# EAGLE library part TINY414 (library JLB6_Processor)
MICROCONTROLLER ATtiny414 2 or 4 Kbytes ROM
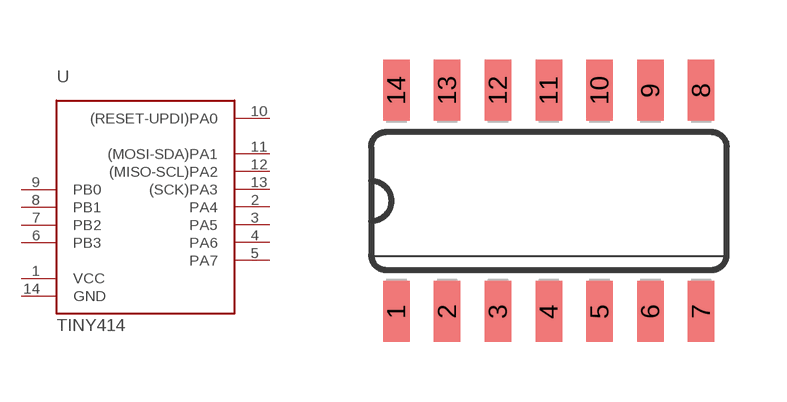
[diagram p46: symbol with the pads of SO14-N; footprint SO14-N]

Designator prefix U

## TINY414  [SO14-N]
1  VCC  pwr
2  PA4
3  PA5
4  PA6
5  PA7
6  PB3
7  PB2
8  PB1
9  PB0
10  (RESET-UPDI)PA0
11  (MOSI-SDA)PA1
12  (MISO-SCL)PA2
13  (SCK)PA3
14  GND  pwr

## Footprint SO14-N (pad centres in mm)
smd 0.66 x 1.524: 1 -1.905,-2.769; 2 -0.635,-2.769; 3 0.635,-2.769; 4 1.905,-2.769; 5 3.175,-2.769; 6 4.445,-2.769; 7 5.715,-2.769; 8 5.715,2.769; 9 4.445,2.769; 10 3.175,2.769; 11 1.905,2.769; 12 0.635,2.769; 13 -0.635,2.769; 14 -1.905,2.769